# EAGLE library part LTM2-01-L5(GREEN) (library FaBo-Switch)
FUJISOKU SWITCHS LTM2 SPST with LED Swtich Function OFF-(ON) LTM 1VA Max,DC 48V ELECTRICAL LIFE 300,000 Operations BOUNCE 10m Sec TRAVEL 0.25mm
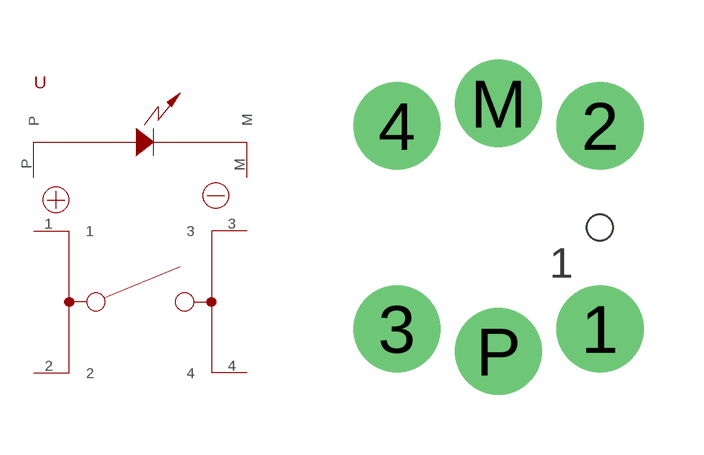
[diagram p5: symbol with the pads of LTM2; footprint LTM2]

Designator prefix -

## LTM2-01-L5(GREEN)  [LTM2]
1  1
2  2
3  3
4  4
M  M
P  P

## Footprint LTM2 (pad centres in mm)
drill 0.95 pad 2.184: 1 2.54,-2.54; 2 2.54,2.54; 3 -2.54,-2.54; 4 -2.54,2.54; M 0,3.1; P 0,-3.1
hole 0.65 at 2.54,0